# Altium footprint library jointbar.PCBLIB: 193 footprints (part 8 of 13)
Each footprint in its own frame and in the unit in brackets; x right, y up, seen from the top. Pads: shape width x height; smd on the part's side, far side on the other; paste and mask are expansions set on the pad; w line width, h text height; cw(c..) or ccw(c..) is an arc to the next point about the centre after c.
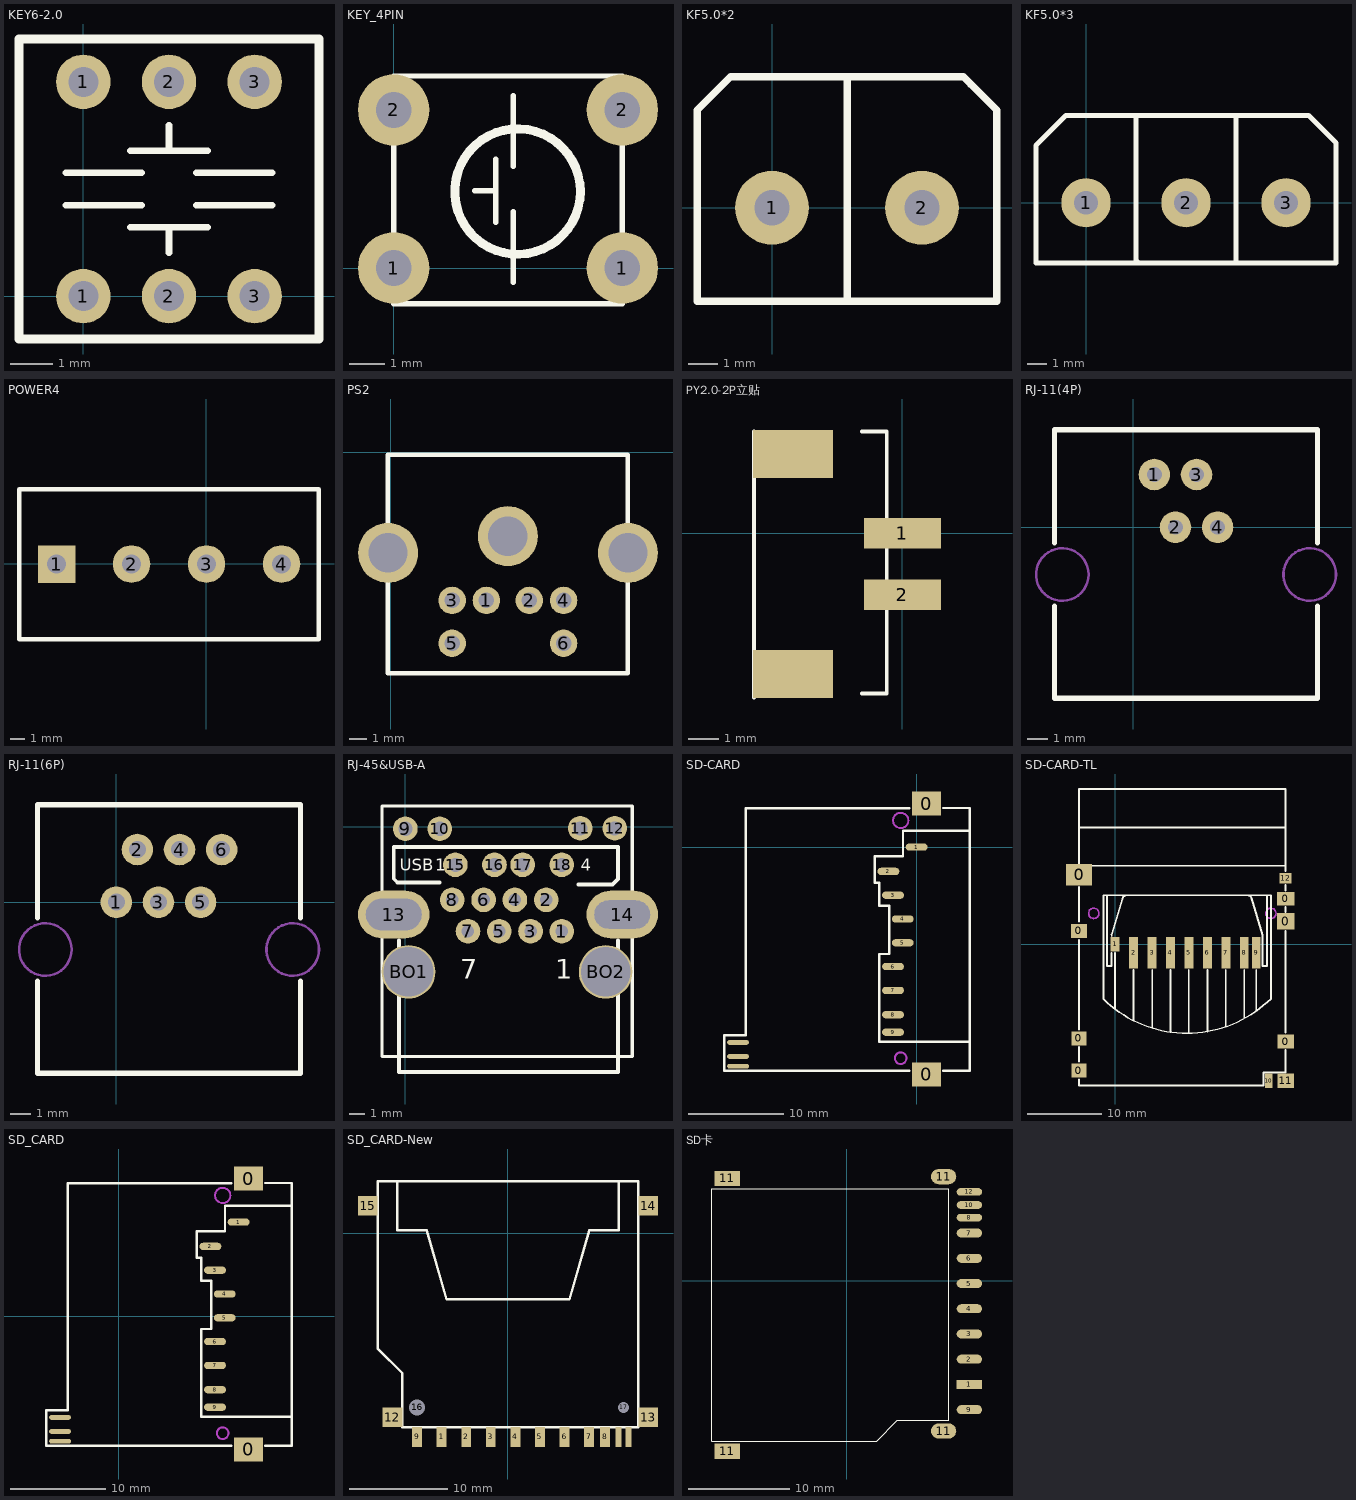
[diagram p7: the footprints below, top view; thin cyan lines are the x and y axes]

## KEY6-2.0 [mm] "方形,7x7mm,6pin/2.0mm间距"
pads (6):
  round 1.27 hole 0.7: 1(0,0) 1(0,5) 2(2,0) 2(2,5) 3(4,0) 3(4,5)
TopOverlay:
  lines w0.152: -0.413,2.119 1.365,2.119 ; -0.413,2.881 1.365,2.881 ; 1.1,1.611 2.9,1.611 ; 1.1,3.389 2.9,3.389 ; 2,1.011 2,1.611 ; 2,3.389 2,3.989 ; 2.635,2.119 4.413,2.119 ; 2.635,2.881 4.413,2.881
  lines w0.203: -1.5,-1 5.5,-1 5.5,6 -1.5,6 -1.5,-1

## KEY_4PIN [mil]
pads (4):
  round 80 hole 40: 1(0,0) 1(256,0) 2(0,177) 2(256,177)
TopOverlay:
  circle w10: c138.74,85.67 r70.27
  lines w6: 90.55,86.61 114.17,86.61 ; 114.17,51.18 114.17,122.05 ; 133.86,-15.75 133.86,62.99 ; 133.86,114.17 133.86,192.91 ; 0,-40 256,-40 256,215 0,215 0,-40

## KF5.0*2 [mm]
pads (2):
  round 2.5 hole 1.2: 1(0,0) 2(5.08,0)
TopOverlay:
  lines w0.254: 2.54,-3.175 2.54,4.445 ; 6.731,4.191 7.62,3.302 ; 7.62,3.302 6.477,4.445 -1.397,4.445 -2.54,3.302 -2.54,2.54 -2.54,-3.175 7.62,-3.175 7.62,2.54 7.62,3.302

## KF5.0*3 [mm]
pads (3):
  round 2.5 hole 1.2: 1(0,0) 2(5.08,0) 3(10.16,0)
TopOverlay:
  lines w0.254: 2.54,4.445 2.54,-2.921 2.667,-3.048 ; 7.62,-3.048 7.62,4.445 ; -2.54,-3.048 12.7,-3.048 12.7,2.54 12.7,3.048 11.303,4.445 -1.016,4.445 -2.54,2.921 -2.54,2.54 -2.54,-3.048

## PCBComponent_1 [mm]

## POWER4 [mm]
pads (4):
  rect 2.54x2.54 hole 1.27: 1(-10.148,-0.006)
  round 2.54 hole 1.27: 2(-5.068,-0.006) 3(0.012,-0.006) 4(5.092,-0.006)
TopOverlay:
  lines w0.305: -12.688,-5.086 7.632,-5.086 7.632,5.074 -12.688,5.074 -12.688,-5.086

## PS2 [mil]
pads (9):
  round 63 hole 35.5: 1(220,-340) 2(318.42,-340) 3(141.26,-340) 4(397.16,-340) 5(141.26,-438.42) 6(397.16,-438.42)
  round 137.79 hole 90.55: ""(-6,-231) ""(269.21,-192.36) ""(545,-231)
TopOverlay:
  lines w10: -6.38,-507.32 -6.38,-5.35 544.8,-5.35 544.8,-507.32 -6.38,-507.32

## PY2.0-2P立贴 [mm]
pads (4):
  rect 2.5x1 smd: 1(0,0) 2(0,-2)
  rect 2.6x1.55 smd: ""(-3.55,-4.575) ""(-3.55,2.575)
TopOverlay:
  lines w0.127: -4.826,-5.334 -4.826,3.302 ; -1.321,-5.207 -0.508,-5.207 -0.508,3.302 -1.321,3.302

## RJ-11(4P) [mil]
pads (4):
  round 60 hole 28: 1(40,100) 2(80,0) 3(120,100) 4(160,0)
TopOverlay:
  lines w10: -150,-150 -150,-325 350,-325 350,-150 ; -150,-30 -150,185 350,185 350,-30
Mechanical1:
  circle w5: c335,-90 r50
  circle w5: c-135,-90 r50

## RJ-11(6P) [mil]
pads (6):
  round 60 hole 32: 1(0,0) 2(40,100) 3(80,0) 4(120,100) 5(160,0) 6(200,100)
TopOverlay:
  lines w10: -150,-150 -150,-325 350,-325 350,-150 ; -150,-30 -150,185 350,185 350,-30
Mechanical1:
  circle w5: c-135,-90 r50
  circle w5: c335,-90 r50

## RJ-45&USB-A [mil]
pads (20):
  round 62 hole 31.5: 1(394,-263) 2(354.63,-184.26) 3(315.26,-263) 4(275.89,-184.26) 5(236.52,-263) 6(197.15,-184.26) 7(157.78,-263) 8(118.41,-184.26)
  round 62 hole 35.43: 9(0.3,-5.13) 10(86.91,-5.13) 11(440.39,-4) 12(527,-4)
  oval 180x120 hole 80 slot 140 at 0 deg: 13(-29,-221)
  oval 180x120 hole 70.87 slot 140 at 0 deg: 14(546,-221)
  round 62 hole 35: 15(126,-96) 16(224.43,-96) 17(295.29,-96) 18(393.72,-96)
  round 135 hole 125: BO1(8.17,-365.36) BO2(504.24,-365.36)
TopOverlay:
  lines w8: -58.76,-577.96 571.17,-577.96 571.17,51.96 -58.76,51.96 -58.76,-577.96
  lines w10: -15.73,-286 -15.73,-617.18 535.45,-617.18 535.45,-286 ; 86,-141 -19,-141 -29,-131 -29,-121 -29,-51 535.45,-51 535.45,-131.55 521,-146 ; 436,-146 521,-146 ; 531,-136 521,-146
  text "4" at 441,-111 h30
  text "1" at 76,-111 h30
  text "USB" at -14,-111 h30
  text "7" at 137.78,-383 h50
  text "1" at 377.78,-383 h50

## SD-CARD [mil]
pads (14):
  rect 120x98 smd: 0(40.8,-935.91) 0(40.8,179.09)
  oval 90x30 smd: 1(0,0) 2(-116,-100) 3(-97,-198) 4(-57,-296) 5(-57,-394) 6(-97,-492) 7(-97,-590) 8(-97,-690) 9(-97,-762)
  oval 90x19.68 smd: 10(-734.79,-804) 11(-734.79,-862) 12(-734.79,-902)
TopOverlay:
  lines w10: -703.04,-920.16 -30,-920.16 ; -703.04,-774.17 -790.98,-774.17 -790.98,-920.17 -682.98,-920.17 ; -703.04,-773.17 -703.04,159.83 -30,159.84 ; 110,-920.16 217.96,-920.16 217.96,160.83 110,160.84 ; 216.96,66.83 -56.04,66.83 -56.04,-38.17 -173.04,-38.17 -173.04,-146.17 -154.04,-146.17 -154.04,-242.17 -112.04,-242.17 -112.04,-440.17 -153.04,-440.17 -153.04,-802.17 217.96,-802.17
KeepOutLayer:
  circle w8: c-65.5,-868.98 r24
  circle w8: c-65.5,109.65 r31.5
Mechanical1:
  circle w8: c-65.5,109.65 r31.5
  circle w8: c-65.5,-868.98 r24

## SD-CARD-TL [mm]
pads (19):
  rect 2x1.9 smd: 0(-4.911,-17.105) 0(-4.911,-12.761)
  rect 2.2x1.9 smd: 0(-4.911,1.818) 0(23.105,-13.193)
  rect 3.5x2.9 smd: 0(-4.886,9.44)
  rect 2.4x1.8 smd: 0(23.105,6.187)
  rect 2.4x2.2 smd: 0(23.13,3.114)
  rect 1.2x2 smd: 1(0,0)
  rect 1.2x4.3 smd: 2(2.5,-1.15) 3(5,-1.15) 4(7.5,-1.15) 5(10,-1.15) 6(12.5,-1.15) 7(15,-1.15) 8(17.5,-1.15) 9(19.125,-1.15)
  rect 1x1.95 smd: 10(20.821,-18.51)
  rect 2.2x1.95 smd: 11(23.13,-18.51)
  rect 1.6x1.4 smd: 12(23.105,8.93)
TopOverlay:
  lines w0.203: -1.6,-7.408 ccw(c9.73,4.047) 21.121,-7.348
  lines w0.254: -4.9,-18.311 -4.9,-19.16 20.094,-19.16 ; -4.9,-15.875 -4.9,-13.919 ; -4.9,-11.557 -4.9,0.584 ; -4.9,3.099 -4.9,7.747 ; -4.9,11.201 -4.9,21.04 ; -1.6,-7.408 -1.6,-2.39 -1.6,6.64 21.11,6.64 21.11,-2.36 21.11,-7.36 ; -1.085,6.64 -1.085,-2.96 -0.466,-2.96 -0.466,-1.174 ; -0.463,1.137 -0.463,1.34 -0.466,1.34 -0.463,1.344 1.032,6.271 ; 0.007,-8.769 0.007,-1.174 ; 1.015,6.14 cw(c1.515,6.14) 1.515,6.64 ; 2.491,-10.346 2.491,-3.46 ; 5.031,-11.337 5.031,-3.46 ; 7.495,-11.896 7.495,-3.46 ; 9.984,-12.023 9.984,-3.46 ; 12.499,-11.794 12.499,-3.46 ; 14.988,-11.134 14.988,-3.46 ; 17.385,6.64 18.108,6.64 ; 17.503,-10.016 17.503,-3.46 ; 17.995,6.64 cw(c17.995,6.14) 18.495,6.14 ; 18.477,6.271 19.976,1.267 19.976,-2.96 20.585,-2.96 20.585,6.64 ; 19.128,-9 19.128,-3.46 ; 20.1,-19.154 20.1,-17.36 23.1,-17.36 23.1,-14.3 ; 23.1,-11.963 23.1,1.829 ; 23.1,4.394 23.1,5.08 ; 23.1,7.264 23.1,8.026 ; 23.1,9.917 23.1,10.64 ; -4.9,15.84 -4.9,21.04 ; -4.9,15.84 -4.9,10.64 23.1,10.64 ; -4.9,15.84 23.1,15.84 ; -4.9,21.04 23.1,21.04 23.1,15.84 ; 23.1,10.64 23.1,15.84
KeepOutLayer:
  circle w0.203: c21.1,4.19 r0.7
  circle w0.203: c-2.9,4.19 r0.7
Mechanical1:
  circle w0.203: c-2.9,4.19 r0.7
  circle w0.203: c21.1,4.19 r0.7

## SD_CARD [mil]
pads (14):
  rect 120x98 smd: 0(533.79,-548.91) 0(533.79,566.09)
  oval 90x30 smd: 1(493,387) 2(377,287) 3(396,189) 4(436,91) 5(436,-7) 6(396,-105) 7(396,-203) 8(396,-303) 9(396,-375)
  oval 90x19.68 smd: 10(-241.79,-417) 11(-241.79,-475) 12(-241.79,-515)
TopOverlay:
  lines w10: -210.04,-533.16 463,-533.16 ; -210.04,-387.17 -297.98,-387.17 -297.98,-533.17 -189.98,-533.17 ; -210.04,-386.17 -210.04,546.83 463,546.84 ; 603,-533.16 710.96,-533.16 710.96,547.83 603,547.84 ; 709.96,453.83 436.96,453.83 436.96,348.83 319.96,348.83 319.96,240.83 338.96,240.83 338.96,144.83 380.96,144.83 380.96,-53.17 339.96,-53.17 339.96,-415.17 710.96,-415.17
KeepOutLayer:
  circle w8: c427.5,-481.98 r24
  circle w8: c427.5,496.65 r31.5
Mechanical1:
  circle w8: c427.5,496.65 r31.5
  circle w8: c427.5,-481.98 r24

## SD_CARD-New [mm]
pads (17):
  rect 1x2 smd: 1(-6.719,-20.684) 2(-4.219,-20.684) 3(-1.719,-20.684) 4(0.781,-20.684) 5(3.281,-20.684) 6(5.781,-20.684) 7(8.281,-20.684) 8(9.906,-20.684) 9(-9.219,-20.684)
  rect 0.6x2 smd: 10(12.281,-20.684) 11(11.281,-20.684)
  rect 2x2 smd: 12(-11.719,-18.684) 13(14.281,-18.684) 14(14.281,2.816) 15(-14.219,2.816)
  round 1.5 hole 1.6: 16(-9.219,-17.684)
  round 1 hole 1.1: 17(11.781,-17.684)
TopOverlay:
  lines w0.254: -11.219,5.316 -11.219,0.316 -8.219,0.316 -6.219,-6.684 6.281,-6.684 8.281,0.316 11.281,0.316 11.281,5.316 ; -13.219,-11.684 -10.719,-14.184 -10.719,-19.684 13.281,-19.684 13.281,5.316 -13.219,5.316 -13.219,-11.684

## SD卡 [mil]
pads (15):
  rect 98.42x35 smd: 1(475.58,-402)
  oval 98.42x35 smd: 2(475.58,-304) 3(475.58,-206) 4(475.58,-108) 5(475.58,-10) 6(475.58,88) 7(475.58,186) 9(475.58,-500)
  oval 98.43x30 smd: 8(475.57,246) 10(475.57,295) 12(475.57,346)
  rect 98.42x59.05 smd: 11(-464.42,-662) 11(-464.42,398)
  oval 98.42x59.05 smd: 11(375.58,-583.1) 11(375.58,405.09)
TopOverlay:
  lines w4: -424.42,-622 115.58,-622 195.58,-542 395.58,-542 ; -424.42,358 395.58,358 395.58,-542 ; -404.42,358 -524.42,358 -524.42,-622 -304.42,-622 ; 255.58,-542 395.58,-542